# EAGLE library part AD8436 (library noah)
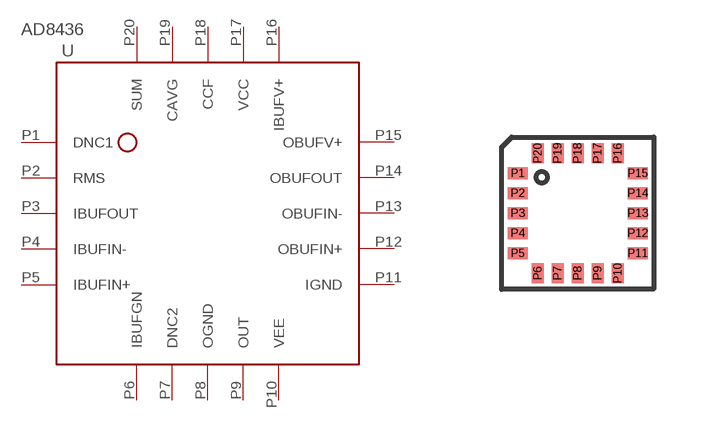
[diagram p21: symbol with the pads of CP-20-10; footprint CP-20-10]

Designator prefix -

## AD8436  [CP-20-10]
P1  DNC1  nc
P2  RMS
P3  IBUFOUT
P4  IBUFIN-
P5  IBUFIN+
P6  IBUFGN
P7  DNC2
P8  OGND
P9  OUT
P10  VEE
P11  IGND
P12  OBUFIN+
P13  OBUFIN-
P14  OBUFOUT
P15  OBUFV+
P16  IBUFV+
P17  VCC
P18  CCF
P19  CAVG
P20  SUM

## Footprint CP-20-10 (pad centres in mm)
smd 0.495 x 0.292: P1 -1.5,1; P5 -1.5,-1; P11 1.5,-1; P15 1.5,1
smd 0.5 x 0.3: P2 -1.5,0.5; P3 -1.5,0; P4 -1.5,-0.5; P12 1.5,-0.5; P13 1.5,0; P14 1.5,0.5
smd 0.292 x 0.495: P6 -1,-1.5; P10 1,-1.5; P16 1,1.5; P20 -1,1.5
smd 0.3 x 0.5: P7 -0.5,-1.5; P8 0,-1.5; P9 0.5,-1.5; P17 0.5,1.5; P18 0,1.5; P19 -0.5,1.5